# Altium integrated library S2B-PH-K-S_LF__SN_(Through Hole).IntLib: 1 symbol
Pins are listed as number, name and electrical type; pins without a type are passive.

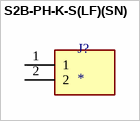
[diagram p0: symbol S2B-PH-K-S(LF)(SN)]

## S2B-PH-K-S(LF)(SN)
designator J?
Connector Header Through Hole, Right Angle 2 position; MP: S2B-PH-K-S(LF)(SN); MF: JST Sales America Inc.; Price: None; Availability: In Stock; Package: None; Value: *; SnapEDA_Link: https://www.snapeda.com/parts/S2B-PH-K-S(LF)(SN)/JST+Sales+America+Inc./view-part/?ref=snap; Purchase-URL: https://pricing.snapeda.com/search/part/S2B-PH-K-S(LF)(SN)/?ref=eda; Check_prices: https://www.snapeda.com/parts/S2B-PH-K-S(LF)(SN)/JST+Sales+America+Inc./view-part/?ref=eda
footprint JST_S2B-PH-K-S(LF)(SN)
pins: 1, 2